# EAGLE library part EFM8UB11F16G-C-QSOP24 (library MCU)
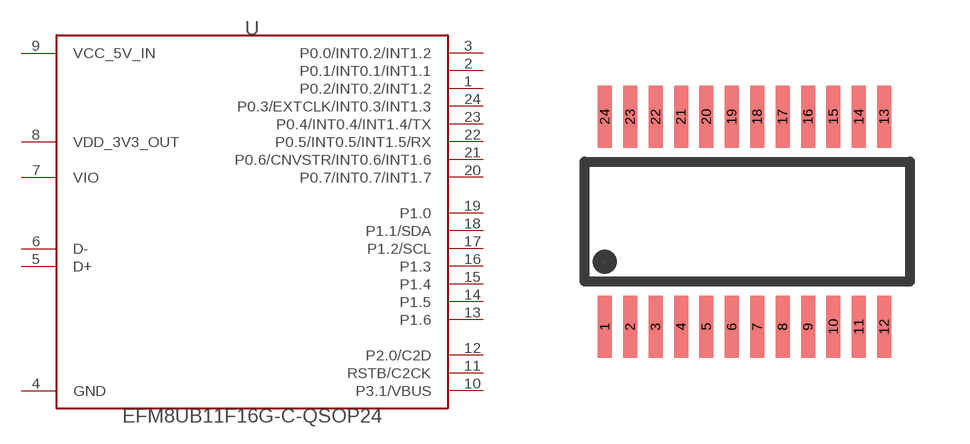
[diagram p12: symbol with the pads of QSOP24; footprint QSOP24]

Designator prefix U

## EFM8UB11F16G-C-QSOP24  [QSOP24]
1  P0.2/INT0.2/INT1.2
2  P0.1/INT0.1/INT1.1
3  P0.0/INT0.2/INT1.2
4  GND
5  D+
6  D-
7  VIO
8  VDD_3V3_OUT
9  VCC_5V_IN
10  P3.1/VBUS
11  RSTB/C2CK
12  P2.0/C2D
13  P1.6
14  P1.5
15  P1.4
16  P1.3
17  P1.2/SCL
18  P1.1/SDA
19  P1.0
20  P0.7/INT0.7/INT1.7
21  P0.6/CNVSTR/INT0.6/INT1.6
22  P0.5/INT0.5/INT1.5/RX
23  P0.4/INT0.4/INT1.4/TX
24  P0.3/EXTCLK/INT0.3/INT1.3

## Footprint QSOP24 (pad centres in mm)
smd 0.35 x 1.55: 1 -3.493,-2.625; 2 -2.857,-2.625; 3 -2.223,-2.625; 4 -1.587,-2.625; 5 -0.953,-2.625; 6 -0.318,-2.625; 7 0.318,-2.625; 8 0.953,-2.625; 9 1.587,-2.625; 10 2.223,-2.625; 11 2.857,-2.625; 12 3.493,-2.625; 13 3.493,2.625; 14 2.857,2.625; 15 2.223,2.625; 16 1.587,2.625; 17 0.953,2.625; 18 0.318,2.625; 19 -0.318,2.625; 20 -0.953,2.625; 21 -1.587,2.625; 22 -2.223,2.625; 23 -2.857,2.625; 24 -3.493,2.625